# Altium integrated library Linear Technology Power Management Power Control.IntLib: 661 symbols (part 21 of 43)
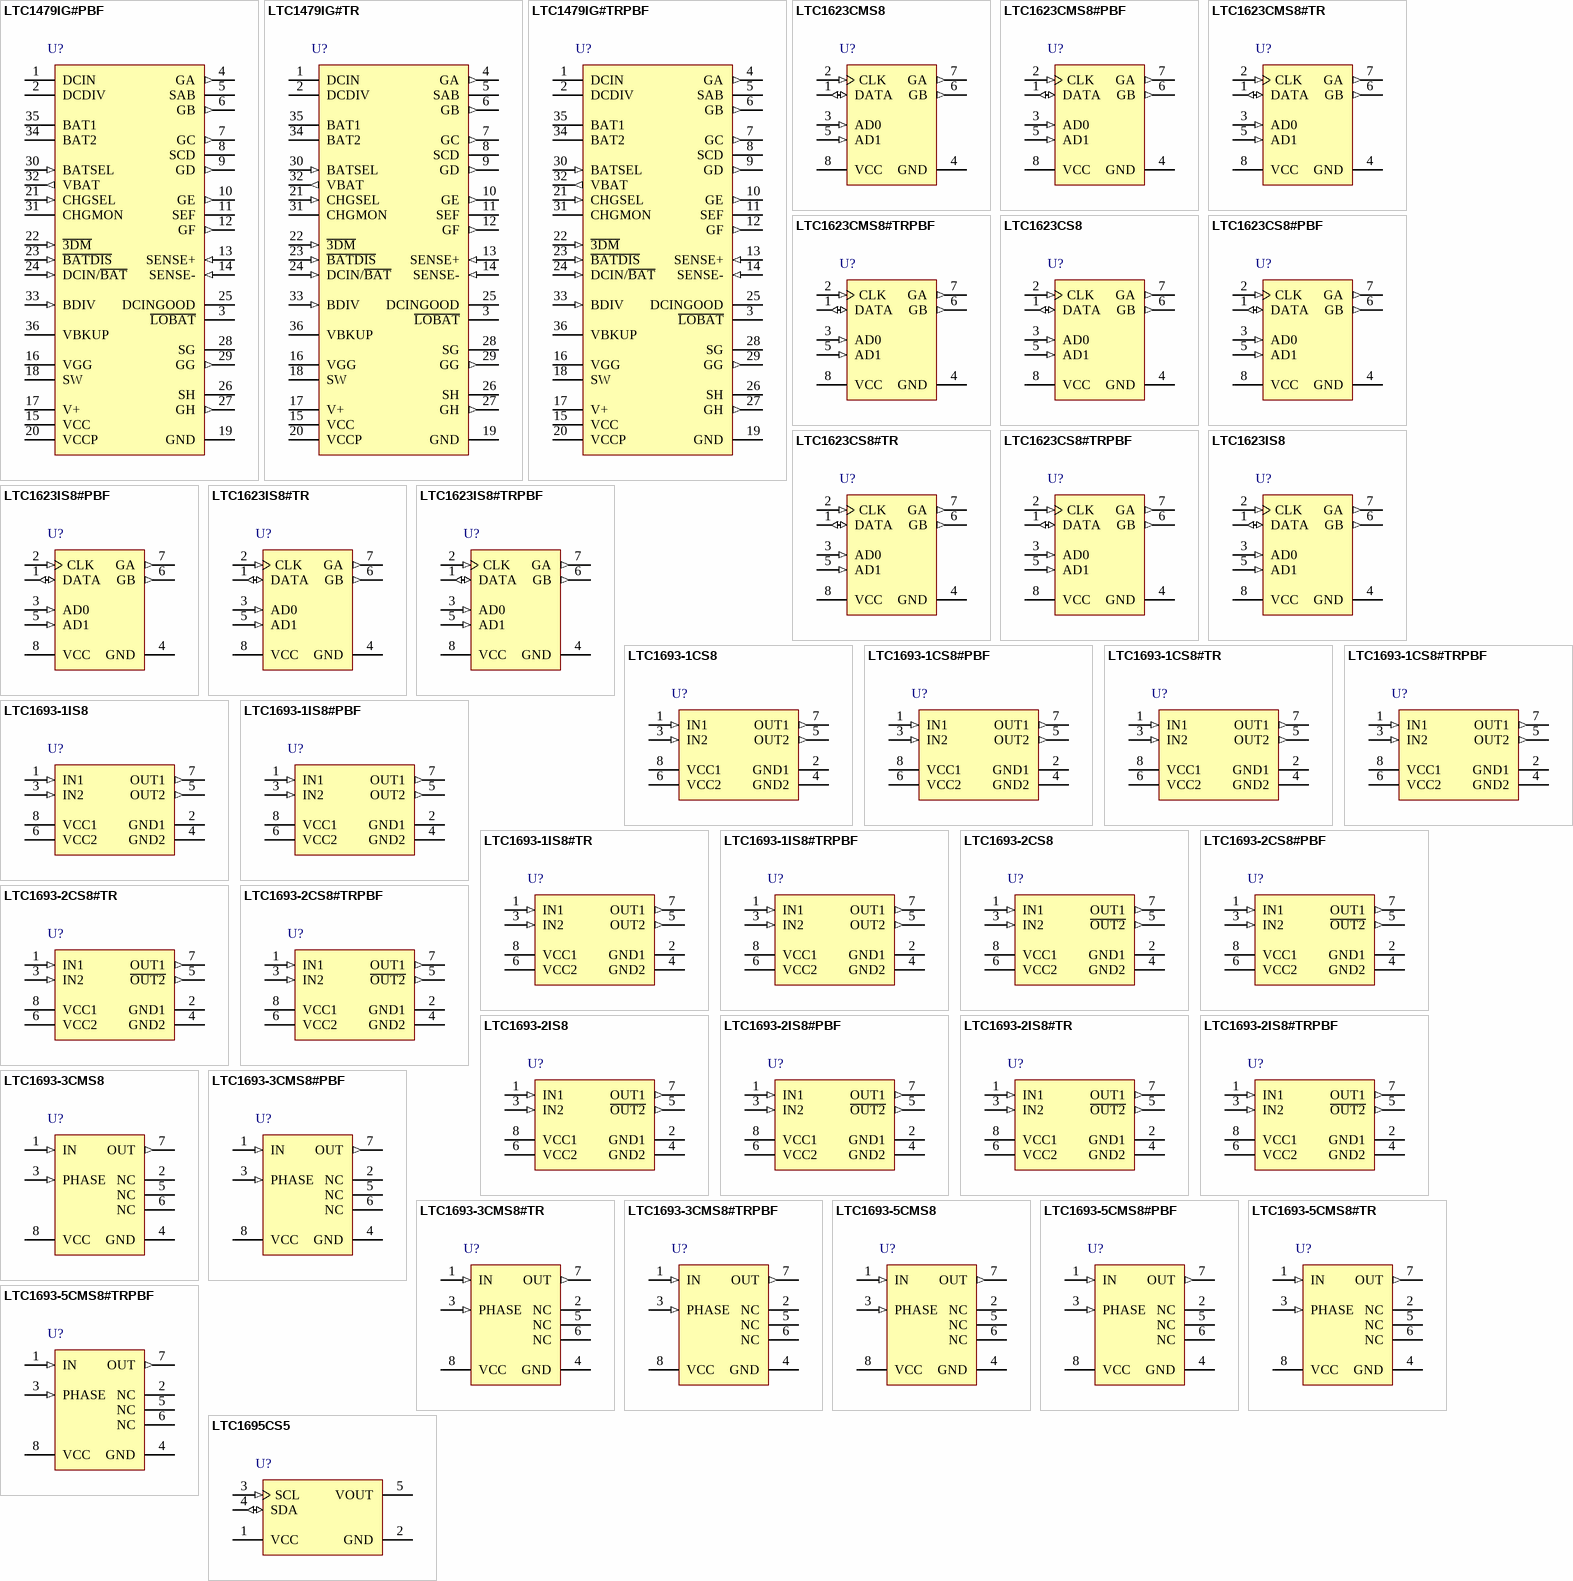
[diagram p39: symbols LTC1479IG#PBF to LTC1695CS5]

## LTC1693-1IS8
designator U?
Two Noninverting Drivers 1.5 A Peak Output Current, 4.5 to 13.2 V Vin, 8-pin SOIC (S8-8), -40 to 85 degC; Manufacturer: Linear Technology; PartNumber: LTC1693-1IS8; DatasheetVersion: Rev. A; PackageVersion: Rev. G, 03/2012; PackageReference: S8-8; PackageDescription: 8-Pin Plastic Small Outline (Narrow .150 Inch), Body 4.9 x 3.9 mm, Pitch 1.27 mm; Supplier 1: Digi-Key; Supplier Part Number 1: LTC1693-1IS8-ND; Supplier 2: Newark; Supplier Part Number 2: 56M3234; RoHS: FALSE; Mounting Technology: Surface Mount; ComponentLink1Description: Manufacturer URL; ComponentLink1URL: http://www.linear.com/; ComponentLink2Description: Datasheet; ComponentLink2URL: http://cds.linear.com/docs/en/datasheet/1693fa.pdf; ComponentLink3Description: Package Specification; ComponentLink3URL: http://cds.linear.com/docs/en/packaging/05081610_G_SO8.pdf
footprint LT-S8-8_N (SOIC, 8-Leads, Body 5x4mm, Pitch 1.27mm, IPC Medium Density)
footprint LT-S8-8_L (SOIC, 8-Leads, Body 5x4mm, Pitch 1.27mm, IPC High Density)
footprint LT-S8-8_M (SOIC, 8-Leads, Body 5x4mm, Pitch 1.27mm, IPC Low Density)
pins: 1 IN1 (in) "Driver Inputs. The inputs have VCC independent thresholds with 1.2V typical hysteresis to improve noise immunity.", 2 GND1 (power) "Driver Grounds. Connect to a low impedance ground. The VCC bypass capacitor should connect directly to this pin. The source of the external MOSFET should also connect directly to the ground pin. This minimizes the AC current (See Datasheet)", 3 IN2 (in) "Driver Inputs. The inputs have VCC independent thresholds with 1.2V typical hysteresis to improve noise immunity.", 4 GND2 (power) "Driver Grounds. Connect to a low impedance ground. The VCC bypass capacitor should connect directly to this pin. The source of the external MOSFET should also connect directly to the ground pin. This minimizes the AC current (See Datasheet)", 5 OUT2 (out) "Driver Outputs. The LTC1693-1’s outputs are in phase with their respective inputs (IN1, IN2).", 6 VCC2 (power) "Power Supply Inputs", 7 OUT1 (out) "Driver Outputs. The LTC1693-1’s outputs are in phase with their respective inputs (IN1, IN2).", 8 VCC1 (power) "Power Supply Inputs"

## LTC1693-1IS8#PBF
designator U?
Two Noninverting Drivers 1.5 A Peak Output Current, 4.5 to 13.2 V Vin, 8-pin SOIC (S8-8), -40 to 85 degC, Pb-Free; Manufacturer: Linear Technology; PartNumber: LTC1693-1IS8#PBF; DatasheetVersion: Rev. A; PackageVersion: Rev. G, 03/2012; PackageReference: S8-8; PackageDescription: 8-Pin Plastic Small Outline (Narrow .150 Inch), Body 4.9 x 3.9 mm, Pitch 1.27 mm; Supplier 1: Digi-Key; Supplier Part Number 1: LTC1693-1IS8#PBF-ND; Supplier 2: Farnell; Supplier Part Number 2: 2102637; Supplier 3: Newark; Supplier Part Number 3: 56M3235; RoHS: TRUE; Mounting Technology: Surface Mount; ComponentLink1Description: Manufacturer URL; ComponentLink1URL: http://www.linear.com/; ComponentLink2Description: Datasheet; ComponentLink2URL: http://cds.linear.com/docs/en/datasheet/1693fa.pdf; ComponentLink3Description: Package Specification; ComponentLink3URL: http://cds.linear.com/docs/en/packaging/05081610_G_SO8.pdf
footprint LT-S8-8_N (SOIC, 8-Leads, Body 5x4mm, Pitch 1.27mm, IPC Medium Density)
footprint LT-S8-8_L (SOIC, 8-Leads, Body 5x4mm, Pitch 1.27mm, IPC High Density)
footprint LT-S8-8_M (SOIC, 8-Leads, Body 5x4mm, Pitch 1.27mm, IPC Low Density)
pins: 1 IN1 (in) "Driver Inputs. The inputs have VCC independent thresholds with 1.2V typical hysteresis to improve noise immunity.", 2 GND1 (power) "Driver Grounds. Connect to a low impedance ground. The VCC bypass capacitor should connect directly to this pin. The source of the external MOSFET should also connect directly to the ground pin. This minimizes the AC current (See Datasheet)", 3 IN2 (in) "Driver Inputs. The inputs have VCC independent thresholds with 1.2V typical hysteresis to improve noise immunity.", 4 GND2 (power) "Driver Grounds. Connect to a low impedance ground. The VCC bypass capacitor should connect directly to this pin. The source of the external MOSFET should also connect directly to the ground pin. This minimizes the AC current (See Datasheet)", 5 OUT2 (out) "Driver Outputs. The LTC1693-1’s outputs are in phase with their respective inputs (IN1, IN2).", 6 VCC2 (power) "Power Supply Inputs", 7 OUT1 (out) "Driver Outputs. The LTC1693-1’s outputs are in phase with their respective inputs (IN1, IN2).", 8 VCC1 (power) "Power Supply Inputs"

## LTC1693-1IS8#TR
designator U?
Two Noninverting Drivers 1.5 A Peak Output Current, 4.5 to 13.2 V Vin, 8-pin SOIC (S8-8), -40 to 85 degC, Tape and Reel; Manufacturer: Linear Technology; PartNumber: LTC1693-1IS8#TR; DatasheetVersion: Rev. A; PackageVersion: Rev. G, 03/2012; PackageReference: S8-8; PackageDescription: 8-Pin Plastic Small Outline (Narrow .150 Inch), Body 4.9 x 3.9 mm, Pitch 1.27 mm; Supplier 1: Digi-Key; Supplier Part Number 1: LTC1693-1IS8#TR-ND; Packing: Tape and Reel; RoHS: FALSE; Mounting Technology: Surface Mount; ComponentLink1Description: Manufacturer URL; ComponentLink1URL: http://www.linear.com/; ComponentLink2Description: Datasheet; ComponentLink2URL: http://cds.linear.com/docs/en/datasheet/1693fa.pdf; ComponentLink3Description: Package Specification; ComponentLink3URL: http://cds.linear.com/docs/en/packaging/05081610_G_SO8.pdf
footprint LT-S8-8_N (SOIC, 8-Leads, Body 5x4mm, Pitch 1.27mm, IPC Medium Density)
footprint LT-S8-8_L (SOIC, 8-Leads, Body 5x4mm, Pitch 1.27mm, IPC High Density)
footprint LT-S8-8_M (SOIC, 8-Leads, Body 5x4mm, Pitch 1.27mm, IPC Low Density)
pins: 1 IN1 (in) "Driver Inputs. The inputs have VCC independent thresholds with 1.2V typical hysteresis to improve noise immunity.", 2 GND1 (power) "Driver Grounds. Connect to a low impedance ground. The VCC bypass capacitor should connect directly to this pin. The source of the external MOSFET should also connect directly to the ground pin. This minimizes the AC current (See Datasheet)", 3 IN2 (in) "Driver Inputs. The inputs have VCC independent thresholds with 1.2V typical hysteresis to improve noise immunity.", 4 GND2 (power) "Driver Grounds. Connect to a low impedance ground. The VCC bypass capacitor should connect directly to this pin. The source of the external MOSFET should also connect directly to the ground pin. This minimizes the AC current (See Datasheet)", 5 OUT2 (out) "Driver Outputs. The LTC1693-1’s outputs are in phase with their respective inputs (IN1, IN2).", 6 VCC2 (power) "Power Supply Inputs", 7 OUT1 (out) "Driver Outputs. The LTC1693-1’s outputs are in phase with their respective inputs (IN1, IN2).", 8 VCC1 (power) "Power Supply Inputs"

## LTC1693-1IS8#TRPBF
designator U?
Two Noninverting Drivers 1.5 A Peak Output Current, 4.5 to 13.2 V Vin, 8-pin SOIC (S8-8), -40 to 85 degC, Pb-Free, Tape and Reel; Manufacturer: Linear Technology; PartNumber: LTC1693-1IS8#TRPBF; DatasheetVersion: Rev. A; PackageVersion: Rev. G, 03/2012; PackageReference: S8-8; PackageDescription: 8-Pin Plastic Small Outline (Narrow .150 Inch), Body 4.9 x 3.9 mm, Pitch 1.27 mm; Supplier 1: Digi-Key; Supplier Part Number 1: LTC1693-1IS8#TRPBF-ND; Supplier 2: Newark; Supplier Part Number 2: 56M3237; Packing: Tape and Reel; RoHS: TRUE; Mounting Technology: Surface Mount; ComponentLink1Description: Manufacturer URL; ComponentLink1URL: http://www.linear.com/; ComponentLink2Description: Datasheet; ComponentLink2URL: http://cds.linear.com/docs/en/datasheet/1693fa.pdf; ComponentLink3Description: Package Specification; ComponentLink3URL: http://cds.linear.com/docs/en/packaging/05081610_G_SO8.pdf
footprint LT-S8-8_N (SOIC, 8-Leads, Body 5x4mm, Pitch 1.27mm, IPC Medium Density)
footprint LT-S8-8_L (SOIC, 8-Leads, Body 5x4mm, Pitch 1.27mm, IPC High Density)
footprint LT-S8-8_M (SOIC, 8-Leads, Body 5x4mm, Pitch 1.27mm, IPC Low Density)
pins: 1 IN1 (in) "Driver Inputs. The inputs have VCC independent thresholds with 1.2V typical hysteresis to improve noise immunity.", 2 GND1 (power) "Driver Grounds. Connect to a low impedance ground. The VCC bypass capacitor should connect directly to this pin. The source of the external MOSFET should also connect directly to the ground pin. This minimizes the AC current (See Datasheet)", 3 IN2 (in) "Driver Inputs. The inputs have VCC independent thresholds with 1.2V typical hysteresis to improve noise immunity.", 4 GND2 (power) "Driver Grounds. Connect to a low impedance ground. The VCC bypass capacitor should connect directly to this pin. The source of the external MOSFET should also connect directly to the ground pin. This minimizes the AC current (See Datasheet)", 5 OUT2 (out) "Driver Outputs. The LTC1693-1’s outputs are in phase with their respective inputs (IN1, IN2).", 6 VCC2 (power) "Power Supply Inputs", 7 OUT1 (out) "Driver Outputs. The LTC1693-1’s outputs are in phase with their respective inputs (IN1, IN2).", 8 VCC1 (power) "Power Supply Inputs"

## LTC1693-2CS8
designator U?
Two Noninverting Drivers 1.5 A Peak Output Current, 4.5 to 13.2 V Vin, 8-pin SOIC (S8-8), 0 to 70 degC; Manufacturer: Linear Technology; PartNumber: LTC1693-2CS8; DatasheetVersion: Rev. A; PackageVersion: Rev. G, 03/2012; PackageReference: S8-8; PackageDescription: 8-Pin Plastic Small Outline (Narrow .150 Inch), Body 4.9 x 3.9 mm, Pitch 1.27 mm; Supplier 1: Digi-Key; Supplier Part Number 1: LTC1693-2CS8-ND; RoHS: FALSE; Mounting Technology: Surface Mount; ComponentLink1Description: Manufacturer URL; ComponentLink1URL: http://www.linear.com/; ComponentLink2Description: Datasheet; ComponentLink2URL: http://cds.linear.com/docs/en/datasheet/1693fa.pdf; ComponentLink3Description: Package Specification; ComponentLink3URL: http://cds.linear.com/docs/en/packaging/05081610_G_SO8.pdf
footprint LT-S8-8_N (SOIC, 8-Leads, Body 5x4mm, Pitch 1.27mm, IPC Medium Density)
footprint LT-S8-8_L (SOIC, 8-Leads, Body 5x4mm, Pitch 1.27mm, IPC High Density)
footprint LT-S8-8_M (SOIC, 8-Leads, Body 5x4mm, Pitch 1.27mm, IPC Low Density)
pins: 1 IN1 (in) "Driver Inputs. The inputs have VCC independent thresholds with 1.2V typical hysteresis to improve noise immunity.", 2 GND1 (power) "Driver Grounds. Connect to a low impedance ground. The VCC bypass capacitor should connect directly to this pin. The source of the external MOSFET should also connect directly to the ground pin. This minimizes the AC current (See Datasheet)", 3 IN2 (in) "Driver Inputs. The inputs have VCC independent thresholds with 1.2V typical hysteresis to improve noise immunity.", 4 GND2 (power) "Driver Grounds. Connect to a low impedance ground. The VCC bypass capacitor should connect directly to this pin. The source of the external MOSFET should also connect directly to the ground pin. This minimizes the AC current (See Datasheet)", 5 ~{OUT2} (out) "Driver Outputs. The LTC1693-2’s topside driver output (OUT1) is in phase with its input (IN1) and the bottom side driver’s output (OUT2) is opposite in phase with respect to its input pin (IN2).", 6 VCC2 (power) "Power Supply Inputs", 7 OUT1 (out) "Driver Outputs. The LTC1693-2’s topside driver output (OUT1) is in phase with its input (IN1) and the bottom side driver’s output (OUT2) is opposite in phase with respect to its input pin (IN2).", 8 VCC1 (power) "Power Supply Inputs"

## LTC1693-2CS8#PBF
designator U?
Two Noninverting Drivers 1.5 A Peak Output Current, 4.5 to 13.2 V Vin, 8-pin SOIC (S8-8), 0 to 70 degC, Pb-Free; Manufacturer: Linear Technology; PartNumber: LTC1693-2CS8#PBF; DatasheetVersion: Rev. A; PackageVersion: Rev. G, 03/2012; PackageReference: S8-8; PackageDescription: 8-Pin Plastic Small Outline (Narrow .150 Inch), Body 4.9 x 3.9 mm, Pitch 1.27 mm; Supplier 1: Digi-Key; Supplier Part Number 1: LTC1693-2CS8#PBF-ND; Supplier 2: Farnell; Supplier Part Number 2: 1273526; RoHS: TRUE; Mounting Technology: Surface Mount; ComponentLink1Description: Manufacturer URL; ComponentLink1URL: http://www.linear.com/; ComponentLink2Description: Datasheet; ComponentLink2URL: http://cds.linear.com/docs/en/datasheet/1693fa.pdf; ComponentLink3Description: Package Specification; ComponentLink3URL: http://cds.linear.com/docs/en/packaging/05081610_G_SO8.pdf
footprint LT-S8-8_N (SOIC, 8-Leads, Body 5x4mm, Pitch 1.27mm, IPC Medium Density)
footprint LT-S8-8_L (SOIC, 8-Leads, Body 5x4mm, Pitch 1.27mm, IPC High Density)
footprint LT-S8-8_M (SOIC, 8-Leads, Body 5x4mm, Pitch 1.27mm, IPC Low Density)
pins: 1 IN1 (in) "Driver Inputs. The inputs have VCC independent thresholds with 1.2V typical hysteresis to improve noise immunity.", 2 GND1 (power) "Driver Grounds. Connect to a low impedance ground. The VCC bypass capacitor should connect directly to this pin. The source of the external MOSFET should also connect directly to the ground pin. This minimizes the AC current (See Datasheet)", 3 IN2 (in) "Driver Inputs. The inputs have VCC independent thresholds with 1.2V typical hysteresis to improve noise immunity.", 4 GND2 (power) "Driver Grounds. Connect to a low impedance ground. The VCC bypass capacitor should connect directly to this pin. The source of the external MOSFET should also connect directly to the ground pin. This minimizes the AC current (See Datasheet)", 5 ~{OUT2} (out) "Driver Outputs. The LTC1693-2’s topside driver output (OUT1) is in phase with its input (IN1) and the bottom side driver’s output (OUT2) is opposite in phase with respect to its input pin (IN2).", 6 VCC2 (power) "Power Supply Inputs", 7 OUT1 (out) "Driver Outputs. The LTC1693-2’s topside driver output (OUT1) is in phase with its input (IN1) and the bottom side driver’s output (OUT2) is opposite in phase with respect to its input pin (IN2).", 8 VCC1 (power) "Power Supply Inputs"

## LTC1693-2CS8#TR
designator U?
Two Noninverting Drivers 1.5 A Peak Output Current, 4.5 to 13.2 V Vin, 8-pin SOIC (S8-8), 0 to 70 degC, Tape and Reel; Manufacturer: Linear Technology; PartNumber: LTC1693-2CS8#TR; DatasheetVersion: Rev. A; PackageVersion: Rev. G, 03/2012; PackageReference: S8-8; PackageDescription: 8-Pin Plastic Small Outline (Narrow .150 Inch), Body 4.9 x 3.9 mm, Pitch 1.27 mm; Supplier 1: Digi-Key; Supplier Part Number 1: LTC1693-2CS8#TR-ND; Packing: Tape and Reel; RoHS: FALSE; Mounting Technology: Surface Mount; ComponentLink1Description: Manufacturer URL; ComponentLink1URL: http://www.linear.com/; ComponentLink2Description: Datasheet; ComponentLink2URL: http://cds.linear.com/docs/en/datasheet/1693fa.pdf; ComponentLink3Description: Package Specification; ComponentLink3URL: http://cds.linear.com/docs/en/packaging/05081610_G_SO8.pdf
footprint LT-S8-8_N (SOIC, 8-Leads, Body 5x4mm, Pitch 1.27mm, IPC Medium Density)
footprint LT-S8-8_L (SOIC, 8-Leads, Body 5x4mm, Pitch 1.27mm, IPC High Density)
footprint LT-S8-8_M (SOIC, 8-Leads, Body 5x4mm, Pitch 1.27mm, IPC Low Density)
pins: 1 IN1 (in) "Driver Inputs. The inputs have VCC independent thresholds with 1.2V typical hysteresis to improve noise immunity.", 2 GND1 (power) "Driver Grounds. Connect to a low impedance ground. The VCC bypass capacitor should connect directly to this pin. The source of the external MOSFET should also connect directly to the ground pin. This minimizes the AC current (See Datasheet)", 3 IN2 (in) "Driver Inputs. The inputs have VCC independent thresholds with 1.2V typical hysteresis to improve noise immunity.", 4 GND2 (power) "Driver Grounds. Connect to a low impedance ground. The VCC bypass capacitor should connect directly to this pin. The source of the external MOSFET should also connect directly to the ground pin. This minimizes the AC current (See Datasheet)", 5 ~{OUT2} (out) "Driver Outputs. The LTC1693-2’s topside driver output (OUT1) is in phase with its input (IN1) and the bottom side driver’s output (OUT2) is opposite in phase with respect to its input pin (IN2).", 6 VCC2 (power) "Power Supply Inputs", 7 OUT1 (out) "Driver Outputs. The LTC1693-2’s topside driver output (OUT1) is in phase with its input (IN1) and the bottom side driver’s output (OUT2) is opposite in phase with respect to its input pin (IN2).", 8 VCC1 (power) "Power Supply Inputs"

## LTC1693-2CS8#TRPBF
designator U?
Two Noninverting Drivers 1.5 A Peak Output Current, 4.5 to 13.2 V Vin, 8-pin SOIC (S8-8), 0 to 70 degC, Pb-Free, Tape and Reel; Manufacturer: Linear Technology; PartNumber: LTC1693-2CS8#TRPBF; DatasheetVersion: Rev. A; PackageVersion: Rev. G, 03/2012; PackageReference: S8-8; PackageDescription: 8-Pin Plastic Small Outline (Narrow .150 Inch), Body 4.9 x 3.9 mm, Pitch 1.27 mm; Supplier 1: Digi-Key; Supplier Part Number 1: LTC1693-2CS8#TRPBF-ND; Packing: Tape and Reel; RoHS: TRUE; Mounting Technology: Surface Mount; ComponentLink1Description: Manufacturer URL; ComponentLink1URL: http://www.linear.com/; ComponentLink2Description: Datasheet; ComponentLink2URL: http://cds.linear.com/docs/en/datasheet/1693fa.pdf; ComponentLink3Description: Package Specification; ComponentLink3URL: http://cds.linear.com/docs/en/packaging/05081610_G_SO8.pdf
footprint LT-S8-8_N (SOIC, 8-Leads, Body 5x4mm, Pitch 1.27mm, IPC Medium Density)
footprint LT-S8-8_L (SOIC, 8-Leads, Body 5x4mm, Pitch 1.27mm, IPC High Density)
footprint LT-S8-8_M (SOIC, 8-Leads, Body 5x4mm, Pitch 1.27mm, IPC Low Density)
pins: 1 IN1 (in) "Driver Inputs. The inputs have VCC independent thresholds with 1.2V typical hysteresis to improve noise immunity.", 2 GND1 (power) "Driver Grounds. Connect to a low impedance ground. The VCC bypass capacitor should connect directly to this pin. The source of the external MOSFET should also connect directly to the ground pin. This minimizes the AC current (See Datasheet)", 3 IN2 (in) "Driver Inputs. The inputs have VCC independent thresholds with 1.2V typical hysteresis to improve noise immunity.", 4 GND2 (power) "Driver Grounds. Connect to a low impedance ground. The VCC bypass capacitor should connect directly to this pin. The source of the external MOSFET should also connect directly to the ground pin. This minimizes the AC current (See Datasheet)", 5 ~{OUT2} (out) "Driver Outputs. The LTC1693-2’s topside driver output (OUT1) is in phase with its input (IN1) and the bottom side driver’s output (OUT2) is opposite in phase with respect to its input pin (IN2).", 6 VCC2 (power) "Power Supply Inputs", 7 OUT1 (out) "Driver Outputs. The LTC1693-2’s topside driver output (OUT1) is in phase with its input (IN1) and the bottom side driver’s output (OUT2) is opposite in phase with respect to its input pin (IN2).", 8 VCC1 (power) "Power Supply Inputs"

## LTC1693-2IS8
designator U?
Two Noninverting Drivers 1.5 A Peak Output Current, 4.5 to 13.2 V Vin, 8-pin SOIC (S8-8), -40 to 85 degC; Manufacturer: Linear Technology; PartNumber: LTC1693-2IS8; DatasheetVersion: Rev. A; PackageVersion: Rev. G, 03/2012; PackageReference: S8-8; PackageDescription: 8-Pin Plastic Small Outline (Narrow .150 Inch), Body 4.9 x 3.9 mm, Pitch 1.27 mm; Supplier 1: Digi-Key; Supplier Part Number 1: LTC1693-2IS8-ND; RoHS: FALSE; Mounting Technology: Surface Mount; ComponentLink1Description: Manufacturer URL; ComponentLink1URL: http://www.linear.com/; ComponentLink2Description: Datasheet; ComponentLink2URL: http://cds.linear.com/docs/en/datasheet/1693fa.pdf; ComponentLink3Description: Package Specification; ComponentLink3URL: http://cds.linear.com/docs/en/packaging/05081610_G_SO8.pdf
footprint LT-S8-8_N (SOIC, 8-Leads, Body 5x4mm, Pitch 1.27mm, IPC Medium Density)
footprint LT-S8-8_L (SOIC, 8-Leads, Body 5x4mm, Pitch 1.27mm, IPC High Density)
footprint LT-S8-8_M (SOIC, 8-Leads, Body 5x4mm, Pitch 1.27mm, IPC Low Density)
pins: 1 IN1 (in) "Driver Inputs. The inputs have VCC independent thresholds with 1.2V typical hysteresis to improve noise immunity.", 2 GND1 (power) "Driver Grounds. Connect to a low impedance ground. The VCC bypass capacitor should connect directly to this pin. The source of the external MOSFET should also connect directly to the ground pin. This minimizes the AC current (See Datasheet)", 3 IN2 (in) "Driver Inputs. The inputs have VCC independent thresholds with 1.2V typical hysteresis to improve noise immunity.", 4 GND2 (power) "Driver Grounds. Connect to a low impedance ground. The VCC bypass capacitor should connect directly to this pin. The source of the external MOSFET should also connect directly to the ground pin. This minimizes the AC current (See Datasheet)", 5 ~{OUT2} (out) "Driver Outputs. The LTC1693-2’s topside driver output (OUT1) is in phase with its input (IN1) and the bottom side driver’s output (OUT2) is opposite in phase with respect to its input pin (IN2).", 6 VCC2 (power) "Power Supply Inputs", 7 OUT1 (out) "Driver Outputs. The LTC1693-2’s topside driver output (OUT1) is in phase with its input (IN1) and the bottom side driver’s output (OUT2) is opposite in phase with respect to its input pin (IN2).", 8 VCC1 (power) "Power Supply Inputs"

## LTC1693-2IS8#PBF
designator U?
Two Noninverting Drivers 1.5 A Peak Output Current, 4.5 to 13.2 V Vin, 8-pin SOIC (S8-8), -40 to 85 degC, Pb-Free; Manufacturer: Linear Technology; PartNumber: LTC1693-2IS8#PBF; DatasheetVersion: Rev. A; PackageVersion: Rev. G, 03/2012; PackageReference: S8-8; PackageDescription: 8-Pin Plastic Small Outline (Narrow .150 Inch), Body 4.9 x 3.9 mm, Pitch 1.27 mm; Supplier 1: Digi-Key; Supplier Part Number 1: LTC1693-2IS8#PBF-ND; Supplier 2: Farnell; Supplier Part Number 2: 2294861; Supplier 3: Newark; Supplier Part Number 3: 56M3243; RoHS: TRUE; Mounting Technology: Surface Mount; ComponentLink1Description: Manufacturer URL; ComponentLink1URL: http://www.linear.com/; ComponentLink2Description: Datasheet; ComponentLink2URL: http://cds.linear.com/docs/en/datasheet/1693fa.pdf; ComponentLink3Description: Package Specification; ComponentLink3URL: http://cds.linear.com/docs/en/packaging/05081610_G_SO8.pdf
footprint LT-S8-8_N (SOIC, 8-Leads, Body 5x4mm, Pitch 1.27mm, IPC Medium Density)
footprint LT-S8-8_L (SOIC, 8-Leads, Body 5x4mm, Pitch 1.27mm, IPC High Density)
footprint LT-S8-8_M (SOIC, 8-Leads, Body 5x4mm, Pitch 1.27mm, IPC Low Density)
pins: 1 IN1 (in) "Driver Inputs. The inputs have VCC independent thresholds with 1.2V typical hysteresis to improve noise immunity.", 2 GND1 (power) "Driver Grounds. Connect to a low impedance ground. The VCC bypass capacitor should connect directly to this pin. The source of the external MOSFET should also connect directly to the ground pin. This minimizes the AC current (See Datasheet)", 3 IN2 (in) "Driver Inputs. The inputs have VCC independent thresholds with 1.2V typical hysteresis to improve noise immunity.", 4 GND2 (power) "Driver Grounds. Connect to a low impedance ground. The VCC bypass capacitor should connect directly to this pin. The source of the external MOSFET should also connect directly to the ground pin. This minimizes the AC current (See Datasheet)", 5 ~{OUT2} (out) "Driver Outputs. The LTC1693-2’s topside driver output (OUT1) is in phase with its input (IN1) and the bottom side driver’s output (OUT2) is opposite in phase with respect to its input pin (IN2).", 6 VCC2 (power) "Power Supply Inputs", 7 OUT1 (out) "Driver Outputs. The LTC1693-2’s topside driver output (OUT1) is in phase with its input (IN1) and the bottom side driver’s output (OUT2) is opposite in phase with respect to its input pin (IN2).", 8 VCC1 (power) "Power Supply Inputs"

## LTC1693-2IS8#TR
designator U?
Two Noninverting Drivers 1.5 A Peak Output Current, 4.5 to 13.2 V Vin, 8-pin SOIC (S8-8), -40 to 85 degC, Tape and Reel; Manufacturer: Linear Technology; PartNumber: LTC1693-2IS8#TR; DatasheetVersion: Rev. A; PackageVersion: Rev. G, 03/2012; PackageReference: S8-8; PackageDescription: 8-Pin Plastic Small Outline (Narrow .150 Inch), Body 4.9 x 3.9 mm, Pitch 1.27 mm; Supplier 1: Digi-Key; Supplier Part Number 1: LTC1693-2IS8#TR-ND; Packing: Tape and Reel; RoHS: FALSE; Mounting Technology: Surface Mount; ComponentLink1Description: Manufacturer URL; ComponentLink1URL: http://www.linear.com/; ComponentLink2Description: Datasheet; ComponentLink2URL: http://cds.linear.com/docs/en/datasheet/1693fa.pdf; ComponentLink3Description: Package Specification; ComponentLink3URL: http://cds.linear.com/docs/en/packaging/05081610_G_SO8.pdf
footprint LT-S8-8_N (SOIC, 8-Leads, Body 5x4mm, Pitch 1.27mm, IPC Medium Density)
footprint LT-S8-8_L (SOIC, 8-Leads, Body 5x4mm, Pitch 1.27mm, IPC High Density)
footprint LT-S8-8_M (SOIC, 8-Leads, Body 5x4mm, Pitch 1.27mm, IPC Low Density)
pins: 1 IN1 (in) "Driver Inputs. The inputs have VCC independent thresholds with 1.2V typical hysteresis to improve noise immunity.", 2 GND1 (power) "Driver Grounds. Connect to a low impedance ground. The VCC bypass capacitor should connect directly to this pin. The source of the external MOSFET should also connect directly to the ground pin. This minimizes the AC current (See Datasheet)", 3 IN2 (in) "Driver Inputs. The inputs have VCC independent thresholds with 1.2V typical hysteresis to improve noise immunity.", 4 GND2 (power) "Driver Grounds. Connect to a low impedance ground. The VCC bypass capacitor should connect directly to this pin. The source of the external MOSFET should also connect directly to the ground pin. This minimizes the AC current (See Datasheet)", 5 ~{OUT2} (out) "Driver Outputs. The LTC1693-2’s topside driver output (OUT1) is in phase with its input (IN1) and the bottom side driver’s output (OUT2) is opposite in phase with respect to its input pin (IN2).", 6 VCC2 (power) "Power Supply Inputs", 7 OUT1 (out) "Driver Outputs. The LTC1693-2’s topside driver output (OUT1) is in phase with its input (IN1) and the bottom side driver’s output (OUT2) is opposite in phase with respect to its input pin (IN2).", 8 VCC1 (power) "Power Supply Inputs"

## LTC1693-2IS8#TRPBF
designator U?
Two Noninverting Drivers 1.5 A Peak Output Current, 4.5 to 13.2 V Vin, 8-pin SOIC (S8-8), -40 to 85 degC, Pb-Free, Tape and Reel; Manufacturer: Linear Technology; PartNumber: LTC1693-2IS8#TRPBF; DatasheetVersion: Rev. A; PackageVersion: Rev. G, 03/2012; PackageReference: S8-8; PackageDescription: 8-Pin Plastic Small Outline (Narrow .150 Inch), Body 4.9 x 3.9 mm, Pitch 1.27 mm; Supplier 1: Digi-Key; Supplier Part Number 1: LTC1693-2IS8#TRPBF-ND; Packing: Tape and Reel; RoHS: TRUE; Mounting Technology: Surface Mount; ComponentLink1Description: Manufacturer URL; ComponentLink1URL: http://www.linear.com/; ComponentLink2Description: Datasheet; ComponentLink2URL: http://cds.linear.com/docs/en/datasheet/1693fa.pdf; ComponentLink3Description: Package Specification; ComponentLink3URL: http://cds.linear.com/docs/en/packaging/05081610_G_SO8.pdf
footprint LT-S8-8_N (SOIC, 8-Leads, Body 5x4mm, Pitch 1.27mm, IPC Medium Density)
footprint LT-S8-8_L (SOIC, 8-Leads, Body 5x4mm, Pitch 1.27mm, IPC High Density)
footprint LT-S8-8_M (SOIC, 8-Leads, Body 5x4mm, Pitch 1.27mm, IPC Low Density)
pins: 1 IN1 (in) "Driver Inputs. The inputs have VCC independent thresholds with 1.2V typical hysteresis to improve noise immunity.", 2 GND1 (power) "Driver Grounds. Connect to a low impedance ground. The VCC bypass capacitor should connect directly to this pin. The source of the external MOSFET should also connect directly to the ground pin. This minimizes the AC current (See Datasheet)", 3 IN2 (in) "Driver Inputs. The inputs have VCC independent thresholds with 1.2V typical hysteresis to improve noise immunity.", 4 GND2 (power) "Driver Grounds. Connect to a low impedance ground. The VCC bypass capacitor should connect directly to this pin. The source of the external MOSFET should also connect directly to the ground pin. This minimizes the AC current (See Datasheet)", 5 ~{OUT2} (out) "Driver Outputs. The LTC1693-2’s topside driver output (OUT1) is in phase with its input (IN1) and the bottom side driver’s output (OUT2) is opposite in phase with respect to its input pin (IN2).", 6 VCC2 (power) "Power Supply Inputs", 7 OUT1 (out) "Driver Outputs. The LTC1693-2’s topside driver output (OUT1) is in phase with its input (IN1) and the bottom side driver’s output (OUT2) is opposite in phase with respect to its input pin (IN2).", 8 VCC1 (power) "Power Supply Inputs"

## LTC1693-3CMS8
designator U?
Two Noninverting Drivers 1.5 A Peak Output Current, 4.5 to 13.2 V Vin, 8-pin SOP (MS8-8), 0 to 70 degC; Manufacturer: Linear Technology; PartNumber: LTC1693-3CMS8; DatasheetVersion: Rev. A; PackageVersion: Rev. G, 03/2012; PackageReference: MS8-8; PackageDescription: 8-Pin Plastic MSOP, Body 3 x 3 mm, Pitch 0.65 mm; Supplier 1: Digi-Key; Supplier Part Number 1: LTC1693-3CMS8-ND; RoHS: FALSE; Mounting Technology: Surface Mount; ComponentLink1Description: Manufacturer URL; ComponentLink1URL: http://www.linear.com/; ComponentLink2Description: Datasheet; ComponentLink2URL: http://cds.linear.com/docs/en/datasheet/1693fa.pdf; ComponentLink3Description: Package Specification; ComponentLink3URL: http://cds.linear.com/docs/en/packaging/05081660_G_MS8.pdf
footprint LT-MS8-8_N (SOP, 8-Leads, Body 3.1x3.1mm, Pitch 0.65mm, IPC Medium Density)
footprint LT-MS8-8_L (SOP, 8-Leads, Body 3.1x3.1mm, Pitch 0.65mm, IPC High Density)
footprint LT-MS8-8_M (SOP, 8-Leads, Body 3.1x3.1mm, Pitch 0.65mm, IPC Low Density)
pins: 1 IN (in) "Driver Input. The input has VCC independent thresholds with hysteresis to improve noise immunity.", 2 NC "No Connect.", 3 PHASE (in) "Output Polarity Select. Connect this pin to VCC or leave it floating for noninverting operation. Ground this pin for inverting operation. The typical PHASE pin input current when pulled low is 20uA.", 4 GND (power) "Driver Ground. Connect to a low impedance ground. The VCC bypass capacitor should connect directly to this pin.", 5 NC "No Connect.", 6 NC "No Connect.", 7 OUT (out) "Driver Output.", 8 VCC (power) "Power Supply Input. The source of the external P-MOSFET should also connect directly to this pin. This minimizes the AC current path and improves signal integrity."

## LTC1693-3CMS8#PBF
designator U?
Two Noninverting Drivers 1.5 A Peak Output Current, 4.5 to 13.2 V Vin, 8-pin SOP (MS8-8), 0 to 70 degC, Pb-Free; Manufacturer: Linear Technology; PartNumber: LTC1693-3CMS8#PBF; DatasheetVersion: Rev. A; PackageVersion: Rev. G, 03/2012; PackageReference: MS8-8; PackageDescription: 8-Pin Plastic MSOP, Body 3 x 3 mm, Pitch 0.65 mm; Supplier 1: Digi-Key; Supplier Part Number 1: LTC1693-3CMS8#PBF-ND; Supplier 2: Newark; Supplier Part Number 2: 56M3247; RoHS: TRUE; Mounting Technology: Surface Mount; ComponentLink1Description: Manufacturer URL; ComponentLink1URL: http://www.linear.com/; ComponentLink2Description: Datasheet; ComponentLink2URL: http://cds.linear.com/docs/en/datasheet/1693fa.pdf; ComponentLink3Description: Package Specification; ComponentLink3URL: http://cds.linear.com/docs/en/packaging/05081660_G_MS8.pdf
footprint LT-MS8-8_N (SOP, 8-Leads, Body 3.1x3.1mm, Pitch 0.65mm, IPC Medium Density)
footprint LT-MS8-8_L (SOP, 8-Leads, Body 3.1x3.1mm, Pitch 0.65mm, IPC High Density)
footprint LT-MS8-8_M (SOP, 8-Leads, Body 3.1x3.1mm, Pitch 0.65mm, IPC Low Density)
pins: 1 IN (in) "Driver Input. The input has VCC independent thresholds with hysteresis to improve noise immunity.", 2 NC "No Connect.", 3 PHASE (in) "Output Polarity Select. Connect this pin to VCC or leave it floating for noninverting operation. Ground this pin for inverting operation. The typical PHASE pin input current when pulled low is 20uA.", 4 GND (power) "Driver Ground. Connect to a low impedance ground. The VCC bypass capacitor should connect directly to this pin.", 5 NC "No Connect.", 6 NC "No Connect.", 7 OUT (out) "Driver Output.", 8 VCC (power) "Power Supply Input. The source of the external P-MOSFET should also connect directly to this pin. This minimizes the AC current path and improves signal integrity."

## LTC1693-3CMS8#TR
designator U?
Two Noninverting Drivers 1.5 A Peak Output Current, 4.5 to 13.2 V Vin, 8-pin SOP (MS8-8), 0 to 70 degC, Tape and Reel; Manufacturer: Linear Technology; PartNumber: LTC1693-3CMS8#TR; DatasheetVersion: Rev. A; PackageVersion: Rev. G, 03/2012; PackageReference: MS8-8; PackageDescription: 8-Pin Plastic MSOP, Body 3 x 3 mm, Pitch 0.65 mm; Supplier 1: Digi-Key; Supplier Part Number 1: LTC1693-3CMS8#TR-ND; Packing: Tape and Reel; RoHS: FALSE; Mounting Technology: Surface Mount; ComponentLink1Description: Manufacturer URL; ComponentLink1URL: http://www.linear.com/; ComponentLink2Description: Datasheet; ComponentLink2URL: http://cds.linear.com/docs/en/datasheet/1693fa.pdf; ComponentLink3Description: Package Specification; ComponentLink3URL: http://cds.linear.com/docs/en/packaging/05081660_G_MS8.pdf
footprint LT-MS8-8_N (SOP, 8-Leads, Body 3.1x3.1mm, Pitch 0.65mm, IPC Medium Density)
footprint LT-MS8-8_L (SOP, 8-Leads, Body 3.1x3.1mm, Pitch 0.65mm, IPC High Density)
footprint LT-MS8-8_M (SOP, 8-Leads, Body 3.1x3.1mm, Pitch 0.65mm, IPC Low Density)
pins: 1 IN (in) "Driver Input. The input has VCC independent thresholds with hysteresis to improve noise immunity.", 2 NC "No Connect.", 3 PHASE (in) "Output Polarity Select. Connect this pin to VCC or leave it floating for noninverting operation. Ground this pin for inverting operation. The typical PHASE pin input current when pulled low is 20uA.", 4 GND (power) "Driver Ground. Connect to a low impedance ground. The VCC bypass capacitor should connect directly to this pin.", 5 NC "No Connect.", 6 NC "No Connect.", 7 OUT (out) "Driver Output.", 8 VCC (power) "Power Supply Input. The source of the external P-MOSFET should also connect directly to this pin. This minimizes the AC current path and improves signal integrity."

## LTC1693-3CMS8#TRPBF
designator U?
Two Noninverting Drivers 1.5 A Peak Output Current, 4.5 to 13.2 V Vin, 8-pin SOP (MS8-8), 0 to 70 degC, Pb-Free, Tape and Reel; Manufacturer: Linear Technology; PartNumber: LTC1693-3CMS8#TRPBF; DatasheetVersion: Rev. A; PackageVersion: Rev. G, 03/2012; PackageReference: MS8-8; PackageDescription: 8-Pin Plastic MSOP, Body 3 x 3 mm, Pitch 0.65 mm; Supplier 1: Digi-Key; Supplier Part Number 1: LTC1693-3CMS8#TRPBF-ND; Packing: Tape and Reel; RoHS: TRUE; Mounting Technology: Surface Mount; ComponentLink1Description: Manufacturer URL; ComponentLink1URL: http://www.linear.com/; ComponentLink2Description: Datasheet; ComponentLink2URL: http://cds.linear.com/docs/en/datasheet/1693fa.pdf; ComponentLink3Description: Package Specification; ComponentLink3URL: http://cds.linear.com/docs/en/packaging/05081660_G_MS8.pdf
footprint LT-MS8-8_N (SOP, 8-Leads, Body 3.1x3.1mm, Pitch 0.65mm, IPC Medium Density)
footprint LT-MS8-8_L (SOP, 8-Leads, Body 3.1x3.1mm, Pitch 0.65mm, IPC High Density)
footprint LT-MS8-8_M (SOP, 8-Leads, Body 3.1x3.1mm, Pitch 0.65mm, IPC Low Density)
pins: 1 IN (in) "Driver Input. The input has VCC independent thresholds with hysteresis to improve noise immunity.", 2 NC "No Connect.", 3 PHASE (in) "Output Polarity Select. Connect this pin to VCC or leave it floating for noninverting operation. Ground this pin for inverting operation. The typical PHASE pin input current when pulled low is 20uA.", 4 GND (power) "Driver Ground. Connect to a low impedance ground. The VCC bypass capacitor should connect directly to this pin.", 5 NC "No Connect.", 6 NC "No Connect.", 7 OUT (out) "Driver Output.", 8 VCC (power) "Power Supply Input. The source of the external P-MOSFET should also connect directly to this pin. This minimizes the AC current path and improves signal integrity."

## LTC1693-5CMS8
designator U?
1.5 A Peak Output Current, 14 V Vin MAX, 8-pin SOP (MS8-8), 0 to 70 degC; Manufacturer: Linear Technology; PartNumber: LTC1693-5CMS8; PackageVersion: Rev. G, 03/2012; PackageReference: MS8-8; PackageDescription: 8-Pin Plastic MSOP, Body 3 x 3 mm, Pitch 0.65 mm; Supplier 1: Digi-Key; Supplier Part Number 1: LTC1693-5CMS8-ND; RoHS: FALSE; Mounting Technology: Surface Mount; ComponentLink1Description: Manufacturer URL; ComponentLink1URL: http://www.linear.com/; ComponentLink2Description: Datasheet; ComponentLink2URL: http://cds.linear.com/docs/en/datasheet/16935f.pdf; ComponentLink3Description: Package Specification; ComponentLink3URL: http://cds.linear.com/docs/en/packaging/05081660_G_MS8.pdf
footprint LT-MS8-8_N (SOP, 8-Leads, Body 3.1x3.1mm, Pitch 0.65mm, IPC Medium Density)
footprint LT-MS8-8_L (SOP, 8-Leads, Body 3.1x3.1mm, Pitch 0.65mm, IPC High Density)
footprint LT-MS8-8_M (SOP, 8-Leads, Body 3.1x3.1mm, Pitch 0.65mm, IPC Low Density)
pins: 1 IN (in) "Driver Input. The input has VCC independent thresholds with hysteresis to improve noise immunity.", 2 NC "No Connect.", 3 PHASE (in) "Output Polarity Select. Connect this pin to VCC or leave it floating for noninverting operation. Ground this pin for inverting operation. The typical PHASE pin input current when pulled low is 20uA.", 4 GND (power) "Driver Ground. Connect to a low impedance ground. The VCC bypass capacitor should connect directly to this pin.", 5 NC "No Connect.", 6 NC "No Connect.", 7 OUT (out) "Driver Output.", 8 VCC (power) "Power Supply Input. The source of the external P-MOSFET should also connect directly to this pin. This minimizes the AC current path and improves signal integrity."

## LTC1693-5CMS8#PBF
designator U?
1.5 A Peak Output Current, 14 V Vin MAX, 8-pin SOP (MS8-8), 0 to 70 degC, Pb-Free; Manufacturer: Linear Technology; PartNumber: LTC1693-5CMS8#PBF; PackageVersion: Rev. G, 03/2012; PackageReference: MS8-8; PackageDescription: 8-Pin Plastic MSOP, Body 3 x 3 mm, Pitch 0.65 mm; Supplier 1: Digi-Key; Supplier Part Number 1: LTC1693-5CMS8#PBF-ND; Supplier 2: Farnell; Supplier Part Number 2: 2308571; Supplier 3: Newark; Supplier Part Number 3: 56M3251; RoHS: TRUE; Mounting Technology: Surface Mount; ComponentLink1Description: Manufacturer URL; ComponentLink1URL: http://www.linear.com/; ComponentLink2Description: Datasheet; ComponentLink2URL: http://cds.linear.com/docs/en/datasheet/16935f.pdf; ComponentLink3Description: Package Specification; ComponentLink3URL: http://cds.linear.com/docs/en/packaging/05081660_G_MS8.pdf
footprint LT-MS8-8_N (SOP, 8-Leads, Body 3.1x3.1mm, Pitch 0.65mm, IPC Medium Density)
footprint LT-MS8-8_L (SOP, 8-Leads, Body 3.1x3.1mm, Pitch 0.65mm, IPC High Density)
footprint LT-MS8-8_M (SOP, 8-Leads, Body 3.1x3.1mm, Pitch 0.65mm, IPC Low Density)
pins: 1 IN (in) "Driver Input. The input has VCC independent thresholds with hysteresis to improve noise immunity.", 2 NC "No Connect.", 3 PHASE (in) "Output Polarity Select. Connect this pin to VCC or leave it floating for noninverting operation. Ground this pin for inverting operation. The typical PHASE pin input current when pulled low is 20uA.", 4 GND (power) "Driver Ground. Connect to a low impedance ground. The VCC bypass capacitor should connect directly to this pin.", 5 NC "No Connect.", 6 NC "No Connect.", 7 OUT (out) "Driver Output.", 8 VCC (power) "Power Supply Input. The source of the external P-MOSFET should also connect directly to this pin. This minimizes the AC current path and improves signal integrity."

## LTC1693-5CMS8#TR
designator U?
1.5 A Peak Output Current, 14 V Vin MAX, 8-pin SOP (MS8-8), 0 to 70 degC, Tape and Reel; Manufacturer: Linear Technology; PartNumber: LTC1693-5CMS8#TR; PackageVersion: Rev. G, 03/2012; PackageReference: MS8-8; PackageDescription: 8-Pin Plastic MSOP, Body 3 x 3 mm, Pitch 0.65 mm; Supplier 1: Digi-Key; Supplier Part Number 1: LTC1693-5CMS8TR-ND; Packing: Tape and Reel; RoHS: FALSE; Mounting Technology: Surface Mount; ComponentLink1Description: Manufacturer URL; ComponentLink1URL: http://www.linear.com/; ComponentLink2Description: Datasheet; ComponentLink2URL: http://cds.linear.com/docs/en/datasheet/16935f.pdf; ComponentLink3Description: Package Specification; ComponentLink3URL: http://cds.linear.com/docs/en/packaging/05081660_G_MS8.pdf
footprint LT-MS8-8_N (SOP, 8-Leads, Body 3.1x3.1mm, Pitch 0.65mm, IPC Medium Density)
footprint LT-MS8-8_L (SOP, 8-Leads, Body 3.1x3.1mm, Pitch 0.65mm, IPC High Density)
footprint LT-MS8-8_M (SOP, 8-Leads, Body 3.1x3.1mm, Pitch 0.65mm, IPC Low Density)
pins: 1 IN (in) "Driver Input. The input has VCC independent thresholds with hysteresis to improve noise immunity.", 2 NC "No Connect.", 3 PHASE (in) "Output Polarity Select. Connect this pin to VCC or leave it floating for noninverting operation. Ground this pin for inverting operation. The typical PHASE pin input current when pulled low is 20uA.", 4 GND (power) "Driver Ground. Connect to a low impedance ground. The VCC bypass capacitor should connect directly to this pin.", 5 NC "No Connect.", 6 NC "No Connect.", 7 OUT (out) "Driver Output.", 8 VCC (power) "Power Supply Input. The source of the external P-MOSFET should also connect directly to this pin. This minimizes the AC current path and improves signal integrity."

## LTC1693-5CMS8#TRPBF
designator U?
1.5 A Peak Output Current, 14 V Vin MAX, 8-pin SOP (MS8-8), 0 to 70 degC, Pb-Free, Tape and Reel; Manufacturer: Linear Technology; PartNumber: LTC1693-5CMS8#TRPBF; PackageVersion: Rev. G, 03/2012; PackageReference: MS8-8; PackageDescription: 8-Pin Plastic MSOP, Body 3 x 3 mm, Pitch 0.65 mm; Supplier 1: Digi-Key; Supplier Part Number 1: LTC1693-5CMS8#TRPBF-ND; Packing: Tape and Reel; RoHS: TRUE; Mounting Technology: Surface Mount; ComponentLink1Description: Manufacturer URL; ComponentLink1URL: http://www.linear.com/; ComponentLink2Description: Datasheet; ComponentLink2URL: http://cds.linear.com/docs/en/datasheet/16935f.pdf; ComponentLink3Description: Package Specification; ComponentLink3URL: http://cds.linear.com/docs/en/packaging/05081660_G_MS8.pdf
footprint LT-MS8-8_N (SOP, 8-Leads, Body 3.1x3.1mm, Pitch 0.65mm, IPC Medium Density)
footprint LT-MS8-8_L (SOP, 8-Leads, Body 3.1x3.1mm, Pitch 0.65mm, IPC High Density)
footprint LT-MS8-8_M (SOP, 8-Leads, Body 3.1x3.1mm, Pitch 0.65mm, IPC Low Density)
pins: 1 IN (in) "Driver Input. The input has VCC independent thresholds with hysteresis to improve noise immunity.", 2 NC "No Connect.", 3 PHASE (in) "Output Polarity Select. Connect this pin to VCC or leave it floating for noninverting operation. Ground this pin for inverting operation. The typical PHASE pin input current when pulled low is 20uA.", 4 GND (power) "Driver Ground. Connect to a low impedance ground. The VCC bypass capacitor should connect directly to this pin.", 5 NC "No Connect.", 6 NC "No Connect.", 7 OUT (out) "Driver Output.", 8 VCC (power) "Power Supply Input. The source of the external P-MOSFET should also connect directly to this pin. This minimizes the AC current path and improves signal integrity."

## LTC1695CS5
designator U?
SMBus / I2C Fan Speed Controller, 5-pin SOT23 (S5-5), 0 to 70 degC; Manufacturer: Linear Technology; PartNumber: LTC1695CS5; PackageVersion: Aug-07; PackageReference: S5-5; PackageDescription: 5-Pin Plastic SOT-23, Body 1.625 x 2.90 mm, Pitch 0.95 mm; RoHS: FALSE; Mounting Technology: Surface Mount; ComponentLink1Description: Manufacturer URL; ComponentLink1URL: http://www.linear.com/; ComponentLink2Description: Datasheet; ComponentLink2URL: http://cds.linear.com/docs/en/datasheet/1695f.pdf; ComponentLink3Description: Package Specification; ComponentLink3URL: http://cds.linear.com/docs/en/datasheet/17278fb.pdf
footprint LT-S5-5-SOT-23_N (SOT23, 5-Leads, Body 3x1.75mm, Pitch 0.95mm, IPC Medium Density)
footprint LT-S5-5-SOT-23_L (SOT23, 5-Leads, Body 3x1.75mm, Pitch 0.95mm, IPC High Density)
footprint LT-S5-5-SOT-23_M (SOT23, 5-Leads, Body 3x1.75mm, Pitch 0.95mm, IPC Low Density)
pins: 1 VCC (power) "Power Supply Input. VCC supplies current to the internal control circuitry, serves as the reference for the 6-bit DAC and acts as the power path for the P-channel low dropout linear regulator. Bypass VCC directly to ground (See Datasheet)", 2 GND (power) "Ground. Tie GND to the ground plane.", 3 SCL (in) "SMBus Clock Input. Data is shifted into SDA on the rising edge of the SCL clock signal during data transfer.", 4 SDA (io) "SMBus Bidirectional Data Input/Digital Output. SDA is an open drain output and requires a pull-up resistor or current source to VCC. Data is shifted into SDA and acknowledged by SDA.", 5 VOUT (power) "Linear Regulator Output. Connect directly to the fan’s +VE terminal. VOUT is set to VZS (code 0) on power-up. For good transient response and stability, use a general purpose, low cost, medium ESR (0.1ohm to 1ohm) tantalu(See Datasheet)"

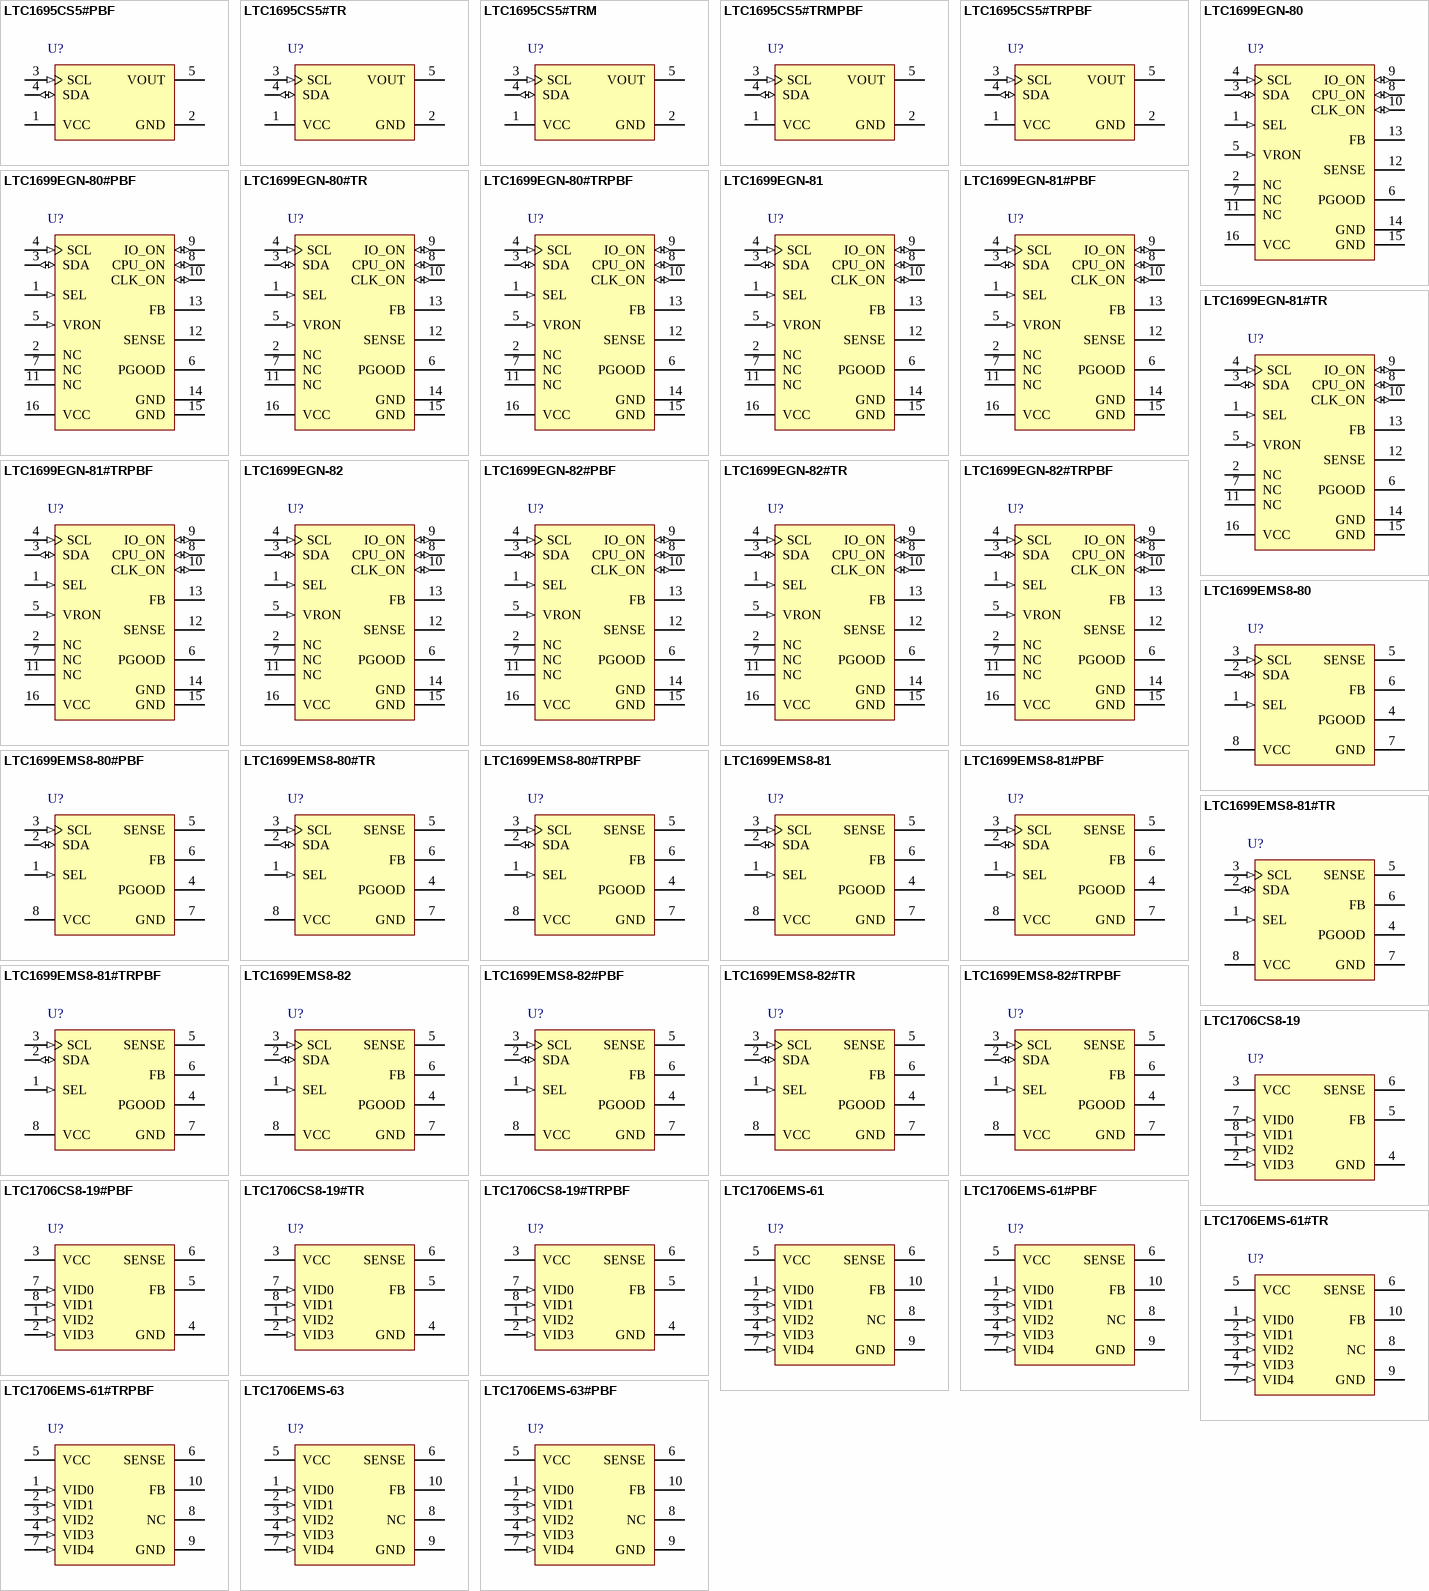
[diagram p10: symbols LTC1695CS5#PBF to LTC1706EMS-63#PBF]

## LTC1695CS5#PBF
designator U?
SMBus / I2C Fan Speed Controller, 5-pin SOT23 (S5-5), 0 to 70 degC, Pb-Free; Manufacturer: Linear Technology; PartNumber: LTC1695CS5#PBF; PackageVersion: Aug-07; PackageReference: S5-5; PackageDescription: 5-Pin Plastic SOT-23, Body 1.625 x 2.90 mm, Pitch 0.95 mm; Supplier 1: Newark; Supplier Part Number 1: 78T2510; RoHS: TRUE; Mounting Technology: Surface Mount; ComponentLink1Description: Manufacturer URL; ComponentLink1URL: http://www.linear.com/; ComponentLink2Description: Datasheet; ComponentLink2URL: http://cds.linear.com/docs/en/datasheet/1695f.pdf; ComponentLink3Description: Package Specification; ComponentLink3URL: http://cds.linear.com/docs/en/datasheet/17278fb.pdf
footprint LT-S5-5-SOT-23_N (SOT23, 5-Leads, Body 3x1.75mm, Pitch 0.95mm, IPC Medium Density)
footprint LT-S5-5-SOT-23_L (SOT23, 5-Leads, Body 3x1.75mm, Pitch 0.95mm, IPC High Density)
footprint LT-S5-5-SOT-23_M (SOT23, 5-Leads, Body 3x1.75mm, Pitch 0.95mm, IPC Low Density)
pins: 1 VCC (power) "Power Supply Input. VCC supplies current to the internal control circuitry, serves as the reference for the 6-bit DAC and acts as the power path for the P-channel low dropout linear regulator. Bypass VCC directly to ground (See Datasheet)", 2 GND (power) "Ground. Tie GND to the ground plane.", 3 SCL (in) "SMBus Clock Input. Data is shifted into SDA on the rising edge of the SCL clock signal during data transfer.", 4 SDA (io) "SMBus Bidirectional Data Input/Digital Output. SDA is an open drain output and requires a pull-up resistor or current source to VCC. Data is shifted into SDA and acknowledged by SDA.", 5 VOUT (power) "Linear Regulator Output. Connect directly to the fan’s +VE terminal. VOUT is set to VZS (code 0) on power-up. For good transient response and stability, use a general purpose, low cost, medium ESR (0.1ohm to 1ohm) tantalu(See Datasheet)"

## LTC1695CS5#TR
designator U?
SMBus / I2C Fan Speed Controller, 5-pin SOT23 (S5-5), 0 to 70 degC, Tape and Reel; Manufacturer: Linear Technology; PartNumber: LTC1695CS5#TR; PackageVersion: Aug-07; PackageReference: S5-5; PackageDescription: 5-Pin Plastic SOT-23, Body 1.625 x 2.90 mm, Pitch 0.95 mm; Supplier 1: Digi-Key; Supplier Part Number 1: LTC1695CS5#TR-ND; Supplier 2: Newark; Supplier Part Number 2: 56M3270; Packing: Tape and Reel; RoHS: FALSE; Mounting Technology: Surface Mount; ComponentLink1Description: Manufacturer URL; ComponentLink1URL: http://www.linear.com/; ComponentLink2Description: Datasheet; ComponentLink2URL: http://cds.linear.com/docs/en/datasheet/1695f.pdf; ComponentLink3Description: Package Specification; ComponentLink3URL: http://cds.linear.com/docs/en/datasheet/17278fb.pdf
footprint LT-S5-5-SOT-23_N (SOT23, 5-Leads, Body 3x1.75mm, Pitch 0.95mm, IPC Medium Density)
footprint LT-S5-5-SOT-23_L (SOT23, 5-Leads, Body 3x1.75mm, Pitch 0.95mm, IPC High Density)
footprint LT-S5-5-SOT-23_M (SOT23, 5-Leads, Body 3x1.75mm, Pitch 0.95mm, IPC Low Density)
pins: 1 VCC (power) "Power Supply Input. VCC supplies current to the internal control circuitry, serves as the reference for the 6-bit DAC and acts as the power path for the P-channel low dropout linear regulator. Bypass VCC directly to ground (See Datasheet)", 2 GND (power) "Ground. Tie GND to the ground plane.", 3 SCL (in) "SMBus Clock Input. Data is shifted into SDA on the rising edge of the SCL clock signal during data transfer.", 4 SDA (io) "SMBus Bidirectional Data Input/Digital Output. SDA is an open drain output and requires a pull-up resistor or current source to VCC. Data is shifted into SDA and acknowledged by SDA.", 5 VOUT (power) "Linear Regulator Output. Connect directly to the fan’s +VE terminal. VOUT is set to VZS (code 0) on power-up. For good transient response and stability, use a general purpose, low cost, medium ESR (0.1ohm to 1ohm) tantalu(See Datasheet)"